# Altium integrated library Big_Library_Cap_Snubber.IntLib: 1 symbol
Pins are listed as number, name and electrical type; pins without a type are passive.

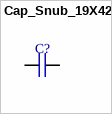
[diagram p0: symbol Cap_Snub_19X42]

## Cap_Snub_19X42
designator C?
Snubber Capacitor; Voltage: 850VDC; Tolerance: 10%; Dimensions: L19XD42mm; ComponentLink1Description: Link
footprint D19-L42-P45
pins: 1, 2